# EAGLE library part TLV320AIC23B (library tlv320aic23b)
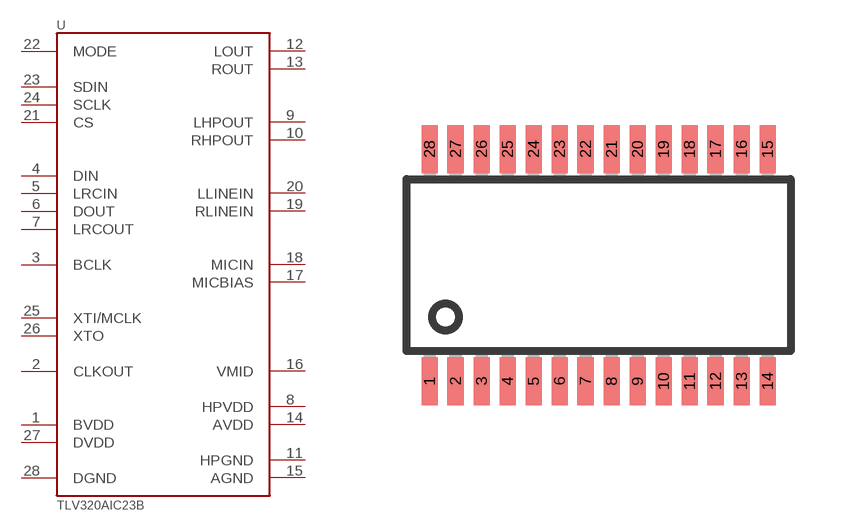
[diagram p0: symbol with the pads of R-PDSO-G28; footprint R-PDSO-G28]

Designator prefix -

## TLV320AIC23BPW  [R-PDSO-G28]
1  BVDD  pwr
2  CLKOUT  out
3  BCLK
4  DIN  in
5  LRCIN
6  DOUT  out
7  LRCOUT
8  HPVDD  pwr
9  LHPOUT  out
10  RHPOUT  out
11  HPGND  pwr
12  LOUT  out
13  ROUT  out
14  AVDD  pwr
15  AGND  pwr
16  VMID  in
17  MICBIAS  out
18  MICIN  in
19  RLINEIN  in
20  LLINEIN  in
21  CS  in
22  MODE  in
23  SDIN  in
24  SCLK  in
25  XTI/MCLK  in
26  XTO  out
27  DVDD  pwr
28  DGND  pwr

## Footprint R-PDSO-G28 (pad centres in mm)
PLASTIC SMALL-OUTLINE PACKAGE SO 28 JEDEC MO-153 Source: www.ti.com/.. slvs087l.pdf
smd 0.4 x 1.2: 1 -4.225,-2.9; 2 -3.575,-2.9; 3 -2.925,-2.9; 4 -2.275,-2.9; 5 -1.625,-2.9; 6 -0.975,-2.9; 7 -0.325,-2.9; 8 0.325,-2.9; 9 0.975,-2.9; 10 1.625,-2.9; 11 2.275,-2.9; 12 2.925,-2.9; 13 3.575,-2.9; 14 4.225,-2.9; 15 4.225,2.9; 16 3.575,2.9; 17 2.925,2.9; 18 2.275,2.9; 19 1.625,2.9; 20 0.975,2.9; 21 0.325,2.9; 22 -0.325,2.9; 23 -0.975,2.9; 24 -1.625,2.9; 25 -2.275,2.9; 26 -2.925,2.9; 27 -3.575,2.9; 28 -4.225,2.9